# Altium footprint library SMD Tantalum Cap Pad Lib.PcbLib: 7 footprints
Each footprint in its own frame and in the unit in brackets; x right, y up, seen from the top. Pads: shape width x height; smd on the part's side, far side on the other; paste and mask are expansions set on the pad; w line width, h text height; cw(c..) or ccw(c..) is an arc to the next point about the centre after c.
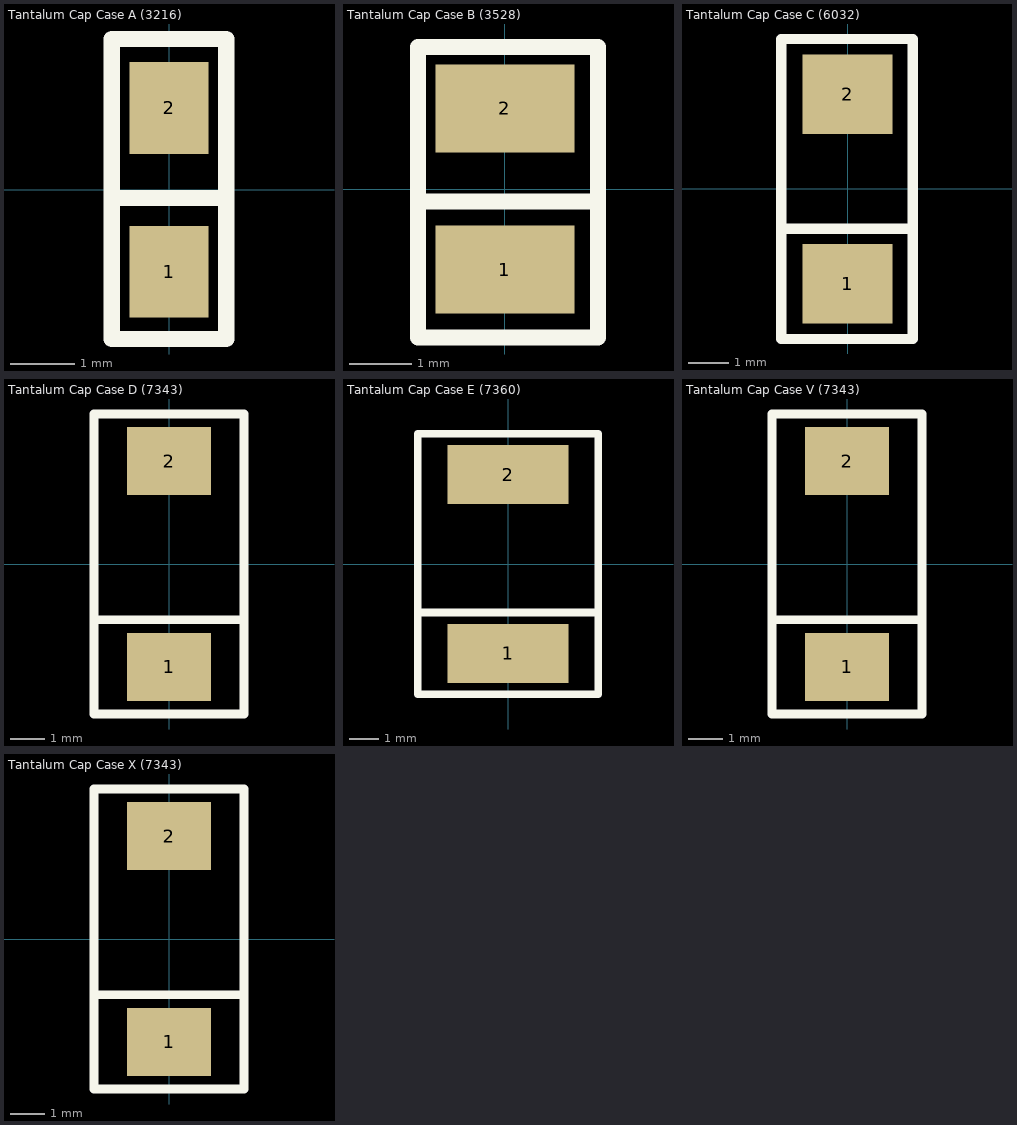
[diagram p0: the footprints below, top view; thin cyan lines are the x and y axes]

## Tantalum Cap Case A (3216) [mil] "Tantalum SMD Capacitors, Case A"
pads (2):
  rect 48x56 smd: 1(0,-50) 2(0,50)
Top Overlay:
  lines w10: -35,-5 35,-5 ; -35,-91 -35,92 35,92 35,-91 -35,-91
3D body "Capacitors Tantalum CaseA (3216-18).step": height 62.99, standoff 0, extent -31.5,-62.98 31.5,63

## Tantalum Cap Case B (3528) [mil] "Tantalum SMD Capacitors, Case B"
pads (2):
  rect 88x56 smd: 1(0,-51) 2(0,51)
Top Overlay:
  lines w10: -55,-8 55,-8 ; -55,-94 -55,90 59,90 59,-94 -55,-94
3D body "Capacitors Tantalum CaseB (3528-21).step": height 74.8, standoff 0, extent -55.12,-68.89 55.12,68.91

## Tantalum Cap Case C (6032) [mil] "Tantalum SMD Capacitors, Case C"
pads (2):
  rect 88x78 smd: 1(0,-93) 2(0,93)
Top Overlay:
  lines w10: -65,-39 64,-39 ; -65,-147 -65,147 64,147 64,-147 -65,-147
3D body "Capacitors Tantalum CaseC (6032-28).step": height 98.43, standoff 0, extent -62.99,-118.1 62.99,118.12

## Tantalum Cap Case D (7343) [mil] "Tantalum SMD Capacitors, Case D"
pads (2):
  rect 96x78 smd: 1(0,-118) 2(0,118)
Top Overlay:
  lines w10: -86,-64 86,-64 ; -86,-172 -86,172 86,172 86,-172 -86,-172
3D body "Capacitors Tantalum CaseD (7343-31).step": height 110.24, standoff 0, extent -84.65,-143.69 84.65,143.71

## Tantalum Cap Case E (7360) [mil] "Tantalum SMD Capacitors, Case E"
pads (2):
  rect 160x78 smd: 1(0,-118) 2(0,118)
Top Overlay:
  lines w10: -119,-64 119,-64 ; -119,-172 -119,172 119,172 119,-172 -119,-172
3D body "Capacitors Tantalum CaseE (7360-38).step": height 141.73, standoff 0, extent -118.11,-143.69 118.11,143.71

## Tantalum Cap Case V (7343) [mil] "Tantalum SMD Capacitors, Case V"
pads (2):
  rect 96x78 smd: 1(0,-118) 2(0,118)
Top Overlay:
  lines w10: -86,-64 85,-64 ; -86,-172 -86,172 86,172 86,-172 -86,-172
3D body "Capacitors Tantalum CaseV (7343-20).step": height 78.74, standoff 0, extent -84.65,-143.69 84.65,143.71

## Tantalum Cap Case X (7343) [mil] "Tantalum SMD Capacitors, Case X"
pads (2):
  rect 96x78 smd: 1(0,-118) 2(0,118)
Top Overlay:
  lines w10: -86,-64 86,-64 ; -86,-172 86,-172 86,172 -86,172 -86,-172
3D body "Capacitors Tantalum CaseX (7343-43).step": height 157.48, standoff 0, extent -84.65,-143.69 84.65,143.71